# Altium schematic symbol library 原理图库a.SchLib: 33 symbols
Pins are listed as number, name and electrical type; pins without a type are passive.

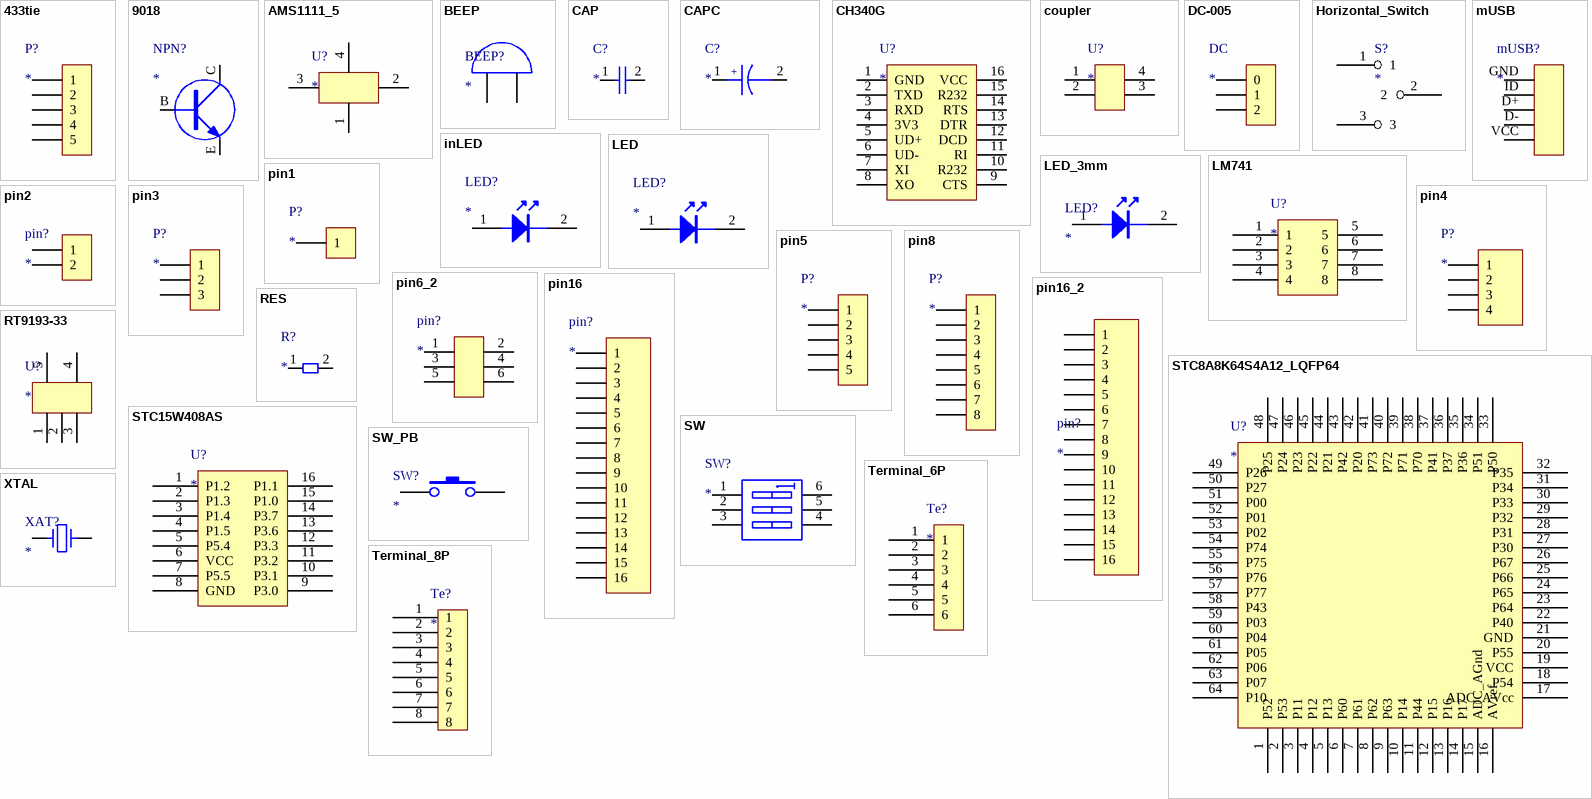
[diagram p0: symbols 433tie to XTAL]

## 433tie
designator P?
footprint 433tie
pins: 1, 2, 3, 4, 5

## 9018
designator NPN?
footprint 9018
pins: B, C, E

## AMS1111_5
designator U?
footprint AMS1117-5
pins: 1 GND, 2 VOUT, 3 VIN, 4 ADJ

## BEEP
designator BEEP?
footprint BEEP
pins: 1, 2

## CAP
designator C?
footprint CAP
pins: 1, 2

## CAPC
designator C?
footprint capc
pins: 1, 2
text: +

## CH340G
designator U?
footprint CH340G
pins: 1 GND, 2 TXD, 3 RXD, 4 3V3, 5 UD+, 6 UD-, 7 XI, 8 XO, 9 CTS, 10 R232, 11 RI, 12 DCD, 13 DTR, 14 RTS, 15 R232, 16 VCC

## coupler
designator U?
footprint coupler
pins: 1 led+, 2 led-, 3 out, 4 in

## DC-005
designator DC
footprint dc-005
pins: 0, 1, 2

## Horizontal_Switch
designator S?
footprint Horizontal_Switch
pins: 1, 2, 3

## inLED
designator LED?
footprint inLED
pins: 1, 2

## LED
designator LED?
footprint led
pins: 1, 2

## LED_3mm
designator LED?
footprint LED_3mm
pins: 1, 2

## LM741
designator U?
footprint LM741
pins: 1, 2, 3, 4, 5, 6, 7, 8

## mUSB
designator mUSB?
footprint mUSB
pins: D+, D-, GND, ID, VCC

## pin1
designator P?
footprint pin1
pins: 1

## pin2
designator pin?
footprint pin2
pins: 1, 2

## pin3
designator P?
footprint pin3 (Footprint not found)
pins: 1, 2, 3

## pin4
designator P?
footprint pin4
pins: 1, 2, 3, 4

## pin5
designator P?
footprint pin5
pins: 1, 2, 3, 4, 5

## pin6_2
designator pin?
footprint pin6_2
pins: 1, 2, 3, 4, 5, 6

## pin8
designator P?
footprint pin8
pins: 1, 2, 3, 4, 5, 6, 7, 8

## pin16
designator pin?
footprint pin16
pins: 1, 2, 3, 4, 5, 6, 7, 8, 9, 10, 11, 12, 13, 14, 15, 16

## pin16_2
designator pin?
footprint pin16_2
pins: 1, 2, 3, 4, 5, 6, 7, 8, 9, 10, 11, 12, 13, 14, 15, 16

## RES
designator R?
footprint res
pins: 1, 2

## RT9193-33
designator U?
footprint RT9193-33
pins: 1 VIN, 2 GND, 3 EN, 4 BP, 5 VOUT

## STC8A8K64S4A12_LQFP64
designator U?
footprint STC8A8K64S4A12_LQFP64S
pins: 1 P52, 2 P53, 3 P11, 4 P12, 5 P13, 6 P60, 7 P61, 8 P62, 9 P63, 10 P14, 11 P44, 12 P15, 13 P16, 14 P17, 15 ADC_AGnd, 16 AVref, 17 ADC_AVcc, 18 P54, 19 VCC, 20 P55, 21 GND, 22 P40, 23 P64, 24 P65, 25 P66, 26 P67, 27 P30, 28 P31, 29 P32, 30 P33, 31 P34, 32 P35, 33 P50, 34 P51, 35 P36, 36 P37, 37 P41, 38 P70, 39 P71, 40 P72, 41 P73, 42 P20, 43 P42, 44 P21, 45 P22, 46 P23, 47 P24, 48 P25, 49 P26, 50 P27, 51 P00, 52 P01, 53 P02, 54 P74, 55 P75, 56 P76, 57 P77, 58 P43, 59 P03, 60 P04, 61 P05, 62 P06, 63 P07, 64 P10

## STC15W408AS
designator U?
footprint stc15w408as
pins: 1 P1.2, 2 P1.3, 3 P1.4, 4 P1.5, 5 P5.4, 6 VCC, 7 P5.5, 8 GND, 9 P3.0, 10 P3.1, 11 P3.2, 12 P3.3, 13 P3.6, 14 P3.7, 15 P1.0, 16 P1.1

## SW
designator SW?
footprint sw
pins: 1 A1, 2 A2, 3 A3, 4 B3, 5 B2, 6 B1

## SW_PB
designator SW?
footprint SW_PB
pins: 1, 2

## Terminal_6P
designator Te?
footprint Terminal_6P
pins: 1, 2, 3, 4, 5, 6

## Terminal_8P
designator Te?
footprint Terminal_8P
pins: 1, 2, 3, 4, 5, 6, 7, 8

## XTAL
designator XAT?
footprint XTAL
pins: 1, 2